# Altium footprint library GBJ2506.PcbLib: 1 footprints
Each footprint in its own frame and in the unit in brackets; x right, y up, seen from the top. Pads: shape width x height; smd on the part's side, far side on the other; paste and mask are expansions set on the pad; w line width, h text height; cw(c..) or ccw(c..) is an arc to the next point about the centre after c.
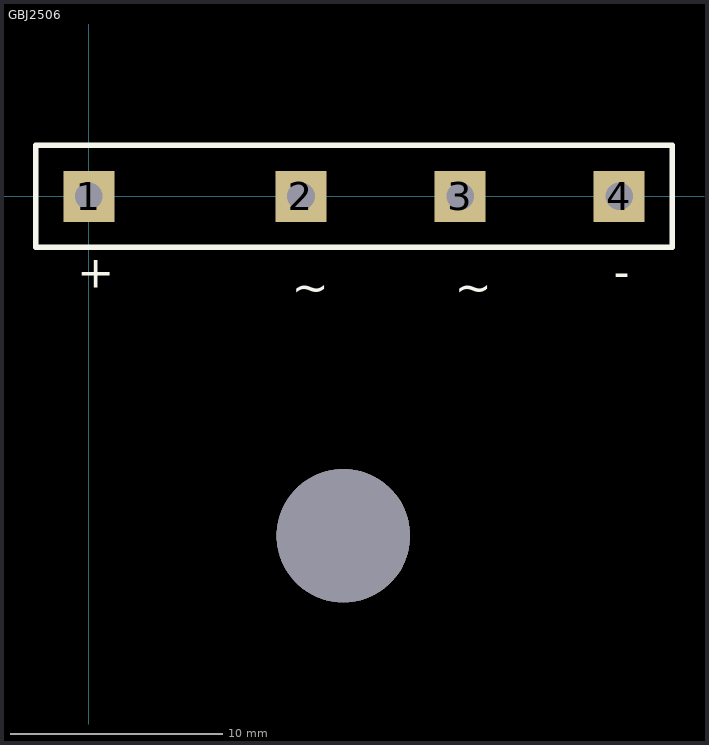
[diagram p0: the footprint, top view; thin cyan lines are the x and y axes]

## GBJ2506 [mm]
pads (5):
  rect 2.4x2.4 hole 1.3: 1(0,0) 2(10,0) 3(17.5,0) 4(25,0)
  round 6.3 hole 6.3 unplated: ""(12,-16)
Top Overlay:
  lines w0.254: -2.5,-2.4 -2.5,2.4 27.5,2.4 27.5,-2.4 -2.5,-2.4
  text "~" at 17.254,-5.016 h1.52
  text "~" at 9.554,-5.016 h1.52
  text "-" at 24.754,-4.308 h1.52
  text "+" at -0.546,-4.3 h1.52
3D body: height 9.5, standoff 0.3, extent -0.2,-3.7 -0.2,-3.7
3D body: height 9.5, standoff 0.3, extent -3,-5 -3,-5
3D body: height 3.8, standoff 0.3, extent -3,-25 28,-5